# EAGLE library part LM2878 (library Audio-Power-amlifier V.2.0)
The LM2878 is a high voltage stereo power amplifier designed to deliver 5W/channel continuous into 8X loads. The amplifier is ideal for use with low regulation power supplies due to the absolute maximum rating of 35V and its superior power supply rejection.
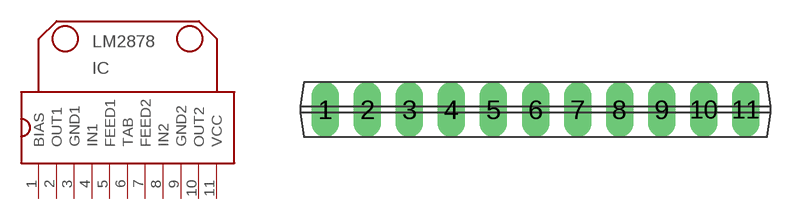
[diagram p154: symbol with the pads of HSIP011-P11A; footprint HSIP011-P11A]

Designator prefix IC

## LM2878  [HSIP011-P11A]
1  BIAS
2  OUT1  out
3  GND1  pwr
4  IN1  in
5  FEED1
6  TAB
7  FEED2
8  IN2  in
9  GND2  pwr
10  OUT2  out
11  VCC  pwr

## Footprint HSIP011-P11A (pad centres in mm)
Single-In-Line Package,NS Package Number P11A . http://www.ti.com/sc/docs/package/guide.htm
drill 1.1 long: 1 -12.7,0; 2 -10.16,0; 3 -7.62,0; 4 -5.08,0; 5 -2.54,0; 6 0,0; 7 2.54,0; 8 5.08,0; 9 7.62,0; 10 10.16,0; 11 12.7,0